# Altium footprint library STM32WB5MMGH6TR.PcbLib: 1 footprints
Each footprint in its own frame and in the unit in brackets; x right, y up, seen from the top. Pads: shape width x height; smd on the part's side, far side on the other; paste and mask are expansions set on the pad; w line width, h text height; cw(c..) or ccw(c..) is an arc to the next point about the centre after c.
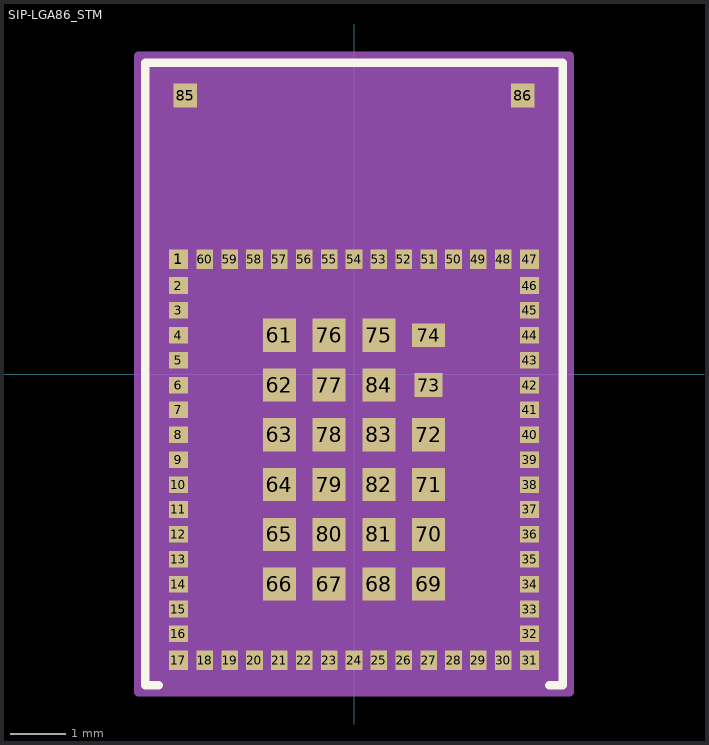
[diagram p0: the footprint, top view; thin cyan lines are the x and y axes]

## SIP-LGA86_STM [mm]
pads (86):
  rect 0.35x0.35 smd paste+0 mask-2539.97: 1(-3.175,2.075) 17(-3.175,-5.175) 31(3.175,-5.175) 47(3.175,2.075)
  rect 0.35x0.3 smd paste+0 mask-2539.97: 2(-3.175,1.6) 3(-3.175,1.15) 4(-3.175,0.7) 5(-3.175,0.25) 6(-3.175,-0.2) 7(-3.175,-0.65) 8(-3.175,-1.1) 9(-3.175,-1.55) 10(-3.175,-2) 11(-3.175,-2.45) 12(-3.175,-2.9) 13(-3.175,-3.35) 14(-3.175,-3.8) 15(-3.175,-4.25) 16(-3.175,-4.7) 32(3.175,-4.7) 33(3.175,-4.25) 34(3.175,-3.8) 35(3.175,-3.35) 36(3.175,-2.9) 37(3.175,-2.45) 38(3.175,-2) 39(3.175,-1.55) 40(3.175,-1.1) 41(3.175,-0.65) 42(3.175,-0.2) 43(3.175,0.25) 44(3.175,0.7) 45(3.175,1.15) 46(3.175,1.6)
  rect 0.3x0.35 smd paste+0 mask-2539.97: 18(-2.7,-5.175) 19(-2.25,-5.175) 20(-1.8,-5.175) 21(-1.35,-5.175) 22(-0.9,-5.175) 23(-0.45,-5.175) 24(0,-5.175) 25(0.45,-5.175) 26(0.9,-5.175) 27(1.35,-5.175) 28(1.8,-5.175) 29(2.25,-5.175) 30(2.7,-5.175) 48(2.7,2.075) 49(2.25,2.075) 50(1.8,2.075) 51(1.35,2.075) 52(0.9,2.075) 53(0.45,2.075) 54(0,2.075) 55(-0.45,2.075) 56(-0.9,2.075) 57(-1.35,2.075) 58(-1.8,2.075) 59(-2.25,2.075) 60(-2.7,2.075)
  rect 0.6x0.6 smd paste+0 mask+0: 61(-1.35,0.7) 62(-1.35,-0.2) 63(-1.35,-1.1) 64(-1.35,-2) 65(-1.35,-2.9) 66(-1.35,-3.8) 67(-0.45,-3.8) 68(0.45,-3.8) 69(1.35,-3.8) 70(1.35,-2.9) 71(1.35,-2) 72(1.35,-1.1) 75(0.45,0.7) 76(-0.45,0.7) 77(-0.45,-0.2) 78(-0.45,-1.1) 79(-0.45,-2) 80(-0.45,-2.9) 81(0.45,-2.9) 82(0.45,-2) 83(0.45,-1.1) 84(0.45,-0.2)
  rect 0.508x0.432 smd paste+0 mask+0: 73(1.35,-0.2)
  rect 0.6x0.432 smd paste+0 mask+0: 74(1.35,0.7)
  rect 0.43x0.43 smd paste+0 mask+0: 85(-3.05,5.035) 86(3.05,5.035)
Top Overlay:
  lines w0.152: -3.534,-5.627 -3.777,-5.627 -3.777,5.627 3.777,5.627 3.777,-5.627 3.534,-5.627
Top Solder:
  drawing of 60 lines, arcs and shapes, not listed
Mechanical 13:
  lines w0.025: -3.65,-5.5 3.65,-5.5 3.65,5.5 -3.65,5.5 -3.65,-5.5
  text "*" at -3.167,1.265 h1.27
Mechanical 15:
  region: 3.904,-5.754 3.904,5.754 -3.904,5.754 -3.904,-5.754
  lines w0.152: -3.904,-5.754 -3.904,5.754 3.904,5.754 3.904,-5.754 -3.904,-5.754
3D body "STM32WB5MMGH6TR.stp": height 1.43, standoff -0.01, extent -3.65,-5.5 3.65,5.5